# Altium footprint library godnota.PcbLib: 23 footprints (part 1 of 2)
Each footprint in its own frame and in the unit in brackets; x right, y up, seen from the top. Pads: shape width x height; smd on the part's side, far side on the other; paste and mask are expansions set on the pad; w line width, h text height; cw(c..) or ccw(c..) is an arc to the next point about the centre after c.
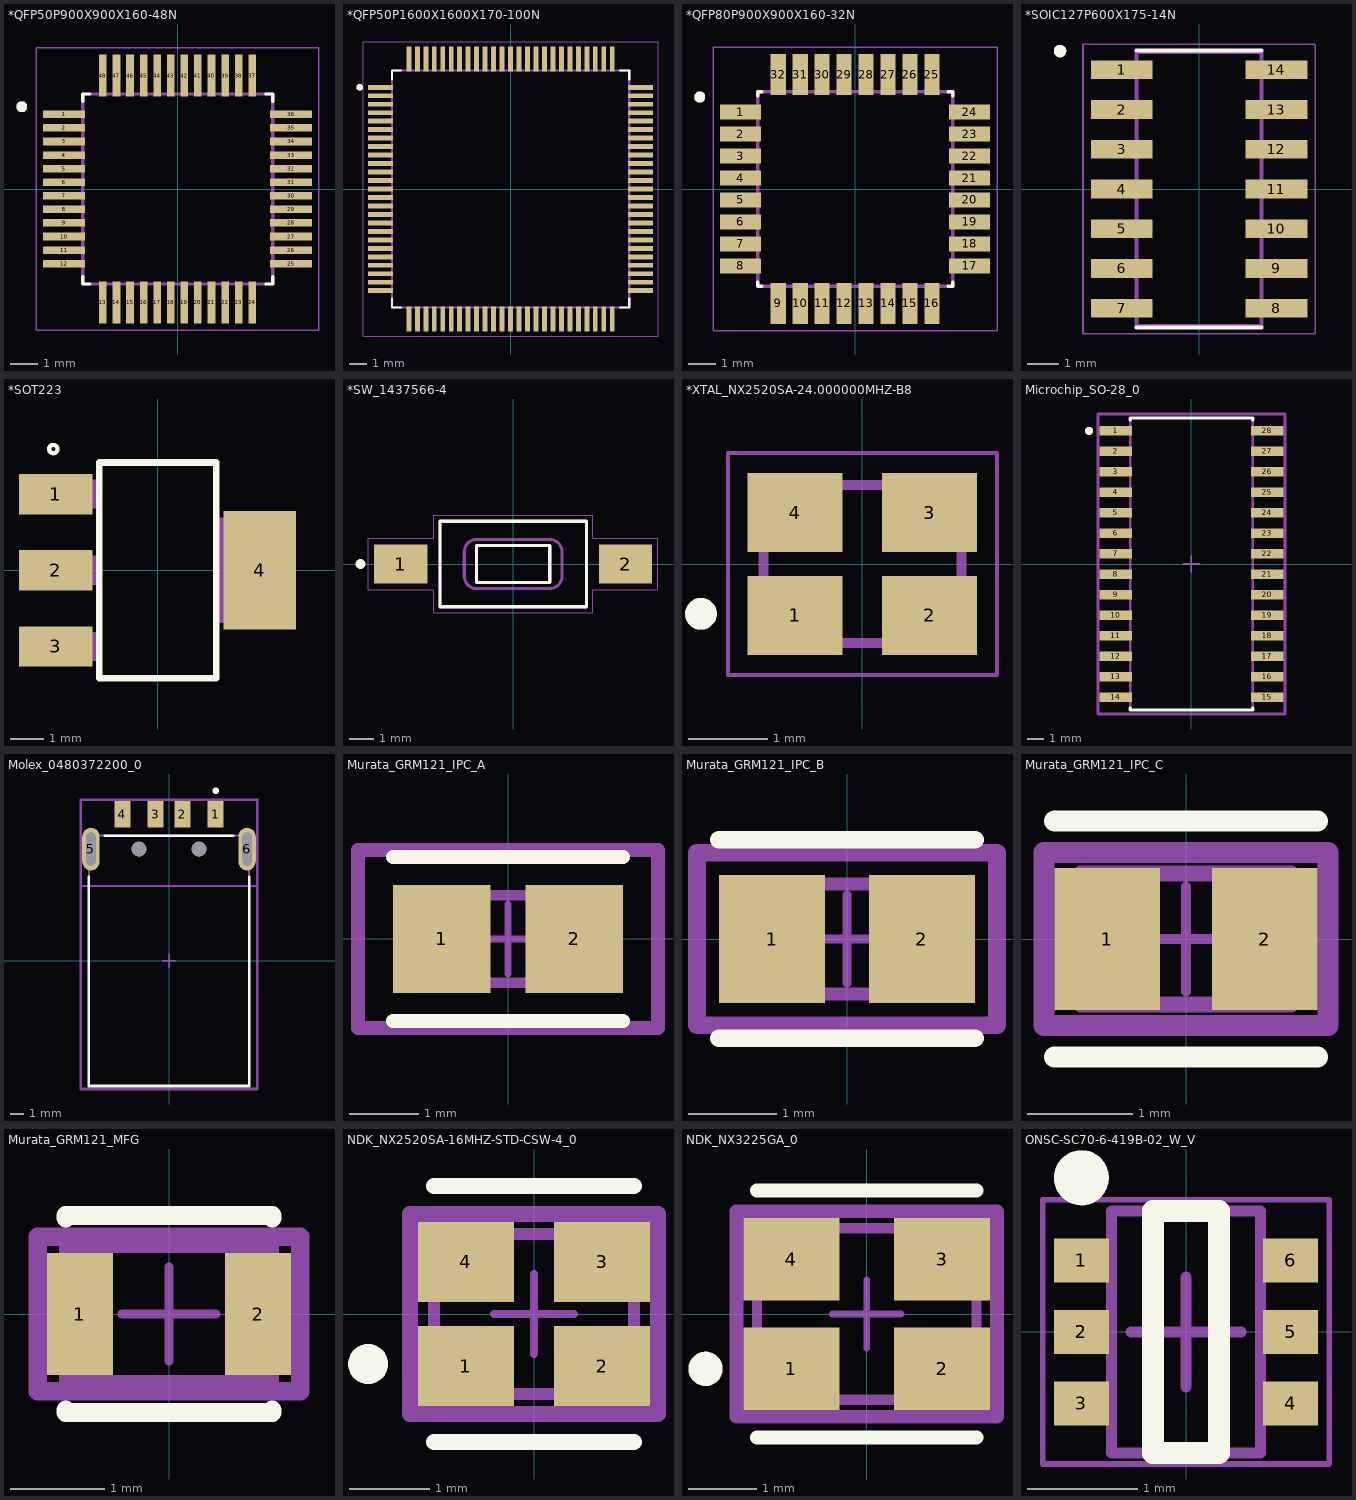
[diagram p0: the footprints below, top view; thin cyan lines are the x and y axes]

## *QFP50P900X900X160-48N [mm]
pads (48):
  rect 1.56x0.28 smd: 1(-4.18,2.75) 2(-4.18,2.25) 3(-4.18,1.75) 4(-4.18,1.25) 5(-4.18,0.75) 6(-4.18,0.25) 7(-4.18,-0.25) 8(-4.18,-0.75) 9(-4.18,-1.25) 10(-4.18,-1.75) 11(-4.18,-2.25) 12(-4.18,-2.75) 25(4.18,-2.75) 26(4.18,-2.25) 27(4.18,-1.75) 28(4.18,-1.25) 29(4.18,-0.75) 30(4.18,-0.25) 31(4.18,0.25) 32(4.18,0.75) 33(4.18,1.25) 34(4.18,1.75) 35(4.18,2.25) 36(4.18,2.75)
  rect 0.28x1.56 smd: 13(-2.75,-4.18) 14(-2.25,-4.18) 15(-1.75,-4.18) 16(-1.25,-4.18) 17(-0.75,-4.18) 18(-0.25,-4.18) 19(0.25,-4.18) 20(0.75,-4.18) 21(1.25,-4.18) 22(1.75,-4.18) 23(2.25,-4.18) 24(2.75,-4.18) 37(2.75,4.18) 38(2.25,4.18) 39(1.75,4.18) 40(1.25,4.18) 41(0.75,4.18) 42(0.25,4.18) 43(-0.25,4.18) 44(-0.75,4.18) 45(-1.25,4.18) 46(-1.75,4.18) 47(-2.25,4.18) 48(-2.75,4.18)
Top Overlay:
  circle w0.2: c-5.74,3.03 r0.1
  lines w0.127: -3.5,-3.24 -3.5,-3.5 -3.24,-3.5 ; -3.5,3.24 -3.5,3.5 -3.24,3.5 ; 3.24,-3.5 3.5,-3.5 3.5,-3.24 ; 3.24,3.5 3.5,3.5 3.5,3.24
Mechanical 4:
  circle w0.2: c-5.74,3.03 r0.1
  circle w0.2: c-5.74,3.03 r0.1
  lines w0.127: -3.5,-3.5 -3.5,3.5 ; -3.5,-3.5 3.5,-3.5 ; -3.5,-3.5 -3.5,3.5 ; -3.5,-3.5 3.5,-3.5 ; -3.5,3.5 3.5,3.5 ; -3.5,3.5 3.5,3.5 ; 3.5,-3.5 3.5,3.5 ; 3.5,-3.5 3.5,3.5
Mechanical 16:
  lines w0.05: -5.21,-5.21 -5.21,5.21 5.21,5.21 5.21,-5.21 -5.21,-5.21
3D body "User Library-LQFP48_Grid_0_5.STEP": height 1.6, standoff 0, extent -4.5,-4.5 4.5,4.5

## *QFP50P1600X1600X170-100N [mm]
pads (100):
  rect 1.49x0.29 smd: 1(-7.67,6) 2(-7.67,5.5) 3(-7.67,5) 4(-7.67,4.5) 5(-7.67,4) 6(-7.67,3.5) 7(-7.67,3) 8(-7.67,2.5) 9(-7.67,2) 10(-7.67,1.5) 11(-7.67,1) 12(-7.67,0.5) 13(-7.67,0) 14(-7.67,-0.5) 15(-7.67,-1) 16(-7.67,-1.5) 17(-7.67,-2) 18(-7.67,-2.5) 19(-7.67,-3) 20(-7.67,-3.5) 21(-7.67,-4) 22(-7.67,-4.5) 23(-7.67,-5) 24(-7.67,-5.5) 25(-7.67,-6) 51(7.67,-6) 52(7.67,-5.5) 53(7.67,-5) 54(7.67,-4.5) 55(7.67,-4) 56(7.67,-3.5) 57(7.67,-3) 58(7.67,-2.5) 59(7.67,-2) 60(7.67,-1.5) 61(7.67,-1) 62(7.67,-0.5) 63(7.67,0) 64(7.67,0.5) 65(7.67,1) 66(7.67,1.5) 67(7.67,2) 68(7.67,2.5) 69(7.67,3) 70(7.67,3.5) 71(7.67,4) 72(7.67,4.5) 73(7.67,5) 74(7.67,5.5) 75(7.67,6)
  rect 0.29x1.49 smd: 26(-6,-7.67) 27(-5.5,-7.67) 28(-5,-7.67) 29(-4.5,-7.67) 30(-4,-7.67) 31(-3.5,-7.67) 32(-3,-7.67) 33(-2.5,-7.67) 34(-2,-7.67) 35(-1.5,-7.67) 36(-1,-7.67) 37(-0.5,-7.67) 38(0,-7.67) 39(0.5,-7.67) 40(1,-7.67) 41(1.5,-7.67) 42(2,-7.67) 43(2.5,-7.67) 44(3,-7.67) 45(3.5,-7.67) 46(4,-7.67) 47(4.5,-7.67) 48(5,-7.67) 49(5.5,-7.67) 50(6,-7.67) 76(6,7.67) 77(5.5,7.67) 78(5,7.67) 79(4.5,7.67) 80(4,7.67) 81(3.5,7.67) 82(3,7.67) 83(2.5,7.67) 84(2,7.67) 85(1.5,7.67) 86(1,7.67) 87(0.5,7.67) 88(0,7.67) 89(-0.5,7.67) 90(-1,7.67) 91(-1.5,7.67) 92(-2,7.67) 93(-2.5,7.67) 94(-3,7.67) 95(-3.5,7.67) 96(-4,7.67) 97(-4.5,7.67) 98(-5,7.67) 99(-5.5,7.67) 100(-6,7.67)
Top Overlay:
  circle w0.2: c-8.9,6 r0.1
  lines w0.127: -7,-6.47 -7,-7 -6.47,-7 ; -7,6.47 -7,7 -6.47,7 ; 6.47,-7 7,-7 7,-6.47 ; 6.47,7 7,7 7,6.47
Mechanical 4:
  circle w0.2: c-8.9,6 r0.1
  circle w0.2: c-8.9,6 r0.1
  lines w0.127: -7,-7 7,-7 ; -7,-7 -7,7 ; -7,-7 7,-7 ; -7,-7 -7,7 ; -7,7 7,7 ; -7,7 7,7 ; 7,-7 7,7 ; 7,-7 7,7
Mechanical 16:
  lines w0.05: -8.7,-8.7 8.7,-8.7 8.7,8.7 -8.7,8.7 -8.7,-8.7
3D body "User Library-LQFP100_05.STEP": height 1.6, standoff 0, extent -8,-8 8,8

## *QFP80P900X900X160-32N [mm]
pads (32):
  rect 1.49x0.55 smd: 1(-4.17,2.8) 2(-4.17,2) 3(-4.17,1.2) 4(-4.17,0.4) 5(-4.17,-0.4) 6(-4.17,-1.2) 7(-4.17,-2) 8(-4.17,-2.8) 17(4.17,-2.8) 18(4.17,-2) 19(4.17,-1.2) 20(4.17,-0.4) 21(4.17,0.4) 22(4.17,1.2) 23(4.17,2) 24(4.17,2.8)
  rect 0.55x1.49 smd: 9(-2.8,-4.17) 10(-2,-4.17) 11(-1.2,-4.17) 12(-0.4,-4.17) 13(0.4,-4.17) 14(1.2,-4.17) 15(2,-4.17) 16(2.8,-4.17) 25(2.8,4.17) 26(2,4.17) 27(1.2,4.17) 28(0.4,4.17) 29(-0.4,4.17) 30(-1.2,4.17) 31(-2,4.17) 32(-2.8,4.17)
Top Overlay:
  circle w0.2: c-5.66,3.35 r0.1
  lines w0.127: -3.55,-3.395 -3.55,-3.55 -3.395,-3.55 ; -3.55,3.395 -3.55,3.55 -3.395,3.55 ; 3.395,-3.55 3.55,-3.55 3.55,-3.395 ; 3.395,3.55 3.55,3.55 3.55,3.395
Mechanical 4:
  circle w0.2: c-5.66,3.35 r0.1
  circle w0.2: c-5.66,3.35 r0.1
  lines w0.127: -3.55,-3.55 -3.55,3.55 ; -3.55,-3.55 3.55,-3.55 ; -3.55,-3.55 -3.55,3.55 ; -3.55,-3.55 3.55,-3.55 ; -3.55,3.55 3.55,3.55 ; -3.55,3.55 3.55,3.55 ; 3.55,-3.55 3.55,3.55 ; 3.55,-3.55 3.55,3.55
Mechanical 16:
  lines w0.05: -5.17,-5.17 -5.17,5.17 5.17,5.17 5.17,-5.17 -5.17,-5.17
3D body "User Library-lqfp32-1.STEP": height 1.5, standoff 0.02, extent -4.5,-4.5 4.5,4.5

## *SOIC127P600X175-14N [mm]
pads (14):
  rect 1.97x0.6 smd: 1(-2.475,3.81) 2(-2.475,2.54) 3(-2.475,1.27) 4(-2.475,0) 5(-2.475,-1.27) 6(-2.475,-2.54) 7(-2.475,-3.81) 8(2.475,-3.81) 9(2.475,-2.54) 10(2.475,-1.27) 11(2.475,0) 12(2.475,1.27) 13(2.475,2.54) 14(2.475,3.81)
Top Overlay:
  circle w0.2: c-4.445,4.41 r0.1
  lines w0.127: -2,-4.43 2,-4.43 ; -2,4.43 2,4.43
Mechanical 4:
  circle w0.2: c-4.445,4.41 r0.1
  circle w0.2: c-4.445,4.41 r0.1
  lines w0.127: -2,-4.375 2,-4.375 ; -2,-4.375 -2,4.375 ; -2,-4.375 2,-4.375 ; -2,-4.375 -2,4.375 ; -2,4.375 2,4.375 ; -2,4.375 2,4.375 ; 2,-4.375 2,4.375 ; 2,-4.375 2,4.375
Mechanical 16:
  lines w0.05: -3.71,-4.625 3.71,-4.625 3.71,4.625 -3.71,4.625 -3.71,-4.625
3D body "User Library-so14-1.STEP": height 1.7, standoff 0, extent -3,-4.4 3,4.4

## *SOT223 [mil]
pads (4):
  rect 88x48 smd: 1(-122,91) 2(-122,0) 3(-122,-91)
  rect 86.61x141.73 smd: 4(122.01,0)
Top Overlay:
  circle w5: c-125,145 r5
  lines w8: -70,-129 -70,129 70,129 70,-129 -70,-129
Mechanical 4:
  region: -70.99,-74.01 -70.99,-108.44 -144.44,-108.44 -144.44,-74.01
  region: -71.11,108.11 -71.11,73.96 -144.04,73.96 -144.04,108.11
  region: -71.1,17.1 -71.1,-17.19 -144.19,-17.19 -144.19,17.1
  region: 144.05,62.95 144.05,-62.99 71.01,-62.99 71.01,62.95
  region: -71,-74 -71,-108.11 -144.11,-108.11 -144.11,-74
  region: -71.15,108.15 -71.15,73.94 -144.06,73.94 -144.06,108.15
  region: -71.04,17.04 -71.04,-17.07 -144.07,-17.07 -144.07,17.04
  region: 144.04,62.96 144.04,-63 71,-63 71,62.96
  region: -70.99,-74.01 -70.99,-108.44 -144.44,-108.44 -144.44,-74.01
  region: -71.11,108.11 -71.11,73.96 -144.04,73.96 -144.04,108.11
  region: -71.1,17.1 -71.1,-17.19 -144.19,-17.19 -144.19,17.1
  region: 144.05,62.95 144.05,-62.99 71.01,-62.99 71.01,62.95
  region: -71,-74 -71,-108.11 -144.11,-108.11 -144.11,-74
  region: -71.15,108.15 -71.15,73.94 -144.06,73.94 -144.06,108.15
  region: -71.04,17.04 -71.04,-17.07 -144.07,-17.07 -144.07,17.04
  region: 144.04,62.96 144.04,-63 71,-63 71,62.96
3D body "ALSRobot-SOT-223.step": height 66.54, standoff 1.57, extent -137.8,-127.95 137.8,127.96

## *SW_1437566-4 [mm]
pads (2):
  rect 2.18x1.6 smd: 1(-4.6,0) 2(4.6,0)
Top Overlay:
  circle w0.2: c-6.25,0 r0.1
  lines w0.127: -3,-1.75 3,-1.75 3,1.75 -3,1.75 -3,-1.75 ; -1.5,-0.75 1.5,-0.75 1.5,0.75 -1.5,0.75 -1.5,-0.75
Mechanical 4:
  circle w0.2: c-4.6,0 r0.1
  circle w0.2: c-4.6,0 r0.1
  lines w0.127: -3,-1.75 3,-1.75 ; -3,-1.75 -3,1.75 ; -3,-1.75 3,-1.75 ; -3,-1.75 -3,1.75 ; -3,1.75 3,1.75 ; -3,1.75 3,1.75 ; -2,-0.5 ccw(c-1.5,-0.5) -1.5,-1 ; -2,-0.5 ccw(c-1.5,-0.5) -1.5,-1 ; -2,-0.5 -2,0.5 ; -2,-0.5 -2,0.5 ; -2,0.5 cw(c-1.5,0.5) -1.5,1 ; -2,0.5 cw(c-1.5,0.5) -1.5,1 ; -1.5,-1 1.5,-1 ; -1.5,-1 1.5,-1 ; -1.5,-0.75 1.5,-0.75 ; -1.5,-0.75 -1.5,0.75 ; -1.5,-0.75 1.5,-0.75 ; -1.5,-0.75 -1.5,0.75 ; -1.5,0.75 1.5,0.75 ; -1.5,0.75 1.5,0.75 ; -1.5,1 1.5,1 ; -1.5,1 1.5,1 ; 1.5,-1 ccw(c1.5,-0.5) 2,-0.5 ; 1.5,-1 ccw(c1.5,-0.5) 2,-0.5 ; 1.5,-0.75 1.5,0.75 ; 1.5,-0.75 1.5,0.75 ; 1.5,1 cw(c1.5,0.5) 2,0.5 ; 1.5,1 cw(c1.5,0.5) 2,0.5 ; 2,-0.5 2,0.5 ; 2,-0.5 2,0.5 ; 3,-1.75 3,1.75 ; 3,-1.75 3,1.75
Mechanical 16:
  lines w0.05: -5.93,-1.05 -5.93,1.05 -3.25,1.05 -3.25,2 3.25,2 3.25,1.05 5.93,1.05 5.93,-1.05 3.25,-1.05 3.25,-2 -3.25,-2 -3.25,-1.05 -5.93,-1.05
3D body "92f2863_fsmsm.stp": height 4.4, standoff -0.02, extent -4.985,-1.75 4.984,1.75

## *XTAL_NX2520SA-24.000000MHZ-B8 [mm]
pads (4):
  rect 1.2x1 smd: 1(-0.85,-0.65) 2(0.85,-0.65) 3(0.85,0.65) 4(-0.85,0.65)
Top Overlay:
  circle w0.3: c-2.04,-0.63 r0.05
Mechanical 4:
  circle w0.3: c-2.04,-0.63 r0.05
  circle w0.3: c-2.04,-0.63 r0.05
  lines w0.127: -1.25,-1 1.25,-1 ; -1.25,-1 -1.25,1 ; -1.25,-1 1.25,-1 ; -1.25,-1 -1.25,1 ; -1.25,1 1.25,1 ; -1.25,1 1.25,1 ; 1.25,-1 1.25,1 ; 1.25,-1 1.25,1
Mechanical 16:
  lines w0.05: -1.7,-1.4 1.7,-1.4 1.7,1.4 -1.7,1.4 -1.7,-1.4
3D body "User Library-NX2520SA.STEP": height 0.65, standoff 0, extent -1.251,-1.001 1.251,1.001

## Microchip_SO-28_0 [mm]
pads (28):
  rect 2x0.6 smd paste+0 mask+0: 1(-4.7,8.255) 2(-4.7,6.985) 3(-4.7,5.715) 4(-4.7,4.445) 5(-4.7,3.175) 6(-4.7,1.905) 7(-4.7,0.635) 8(-4.7,-0.635) 9(-4.7,-1.905) 10(-4.7,-3.175) 11(-4.7,-4.445) 12(-4.7,-5.715) 13(-4.7,-6.985) 14(-4.7,-8.255) 15(4.7,-8.255) 16(4.7,-6.985) 17(4.7,-5.715) 18(4.7,-4.445) 19(4.7,-3.175) 20(4.7,-1.905) 21(4.7,-0.635) 22(4.7,0.635) 23(4.7,1.905) 24(4.7,3.175) 25(4.7,4.445) 26(4.7,5.715) 27(4.7,6.985) 28(4.7,8.255)
Top Overlay:
  circle w0.25: c-6.35,8.255 r0.125
  lines w0.2: -3.8,-8.93 -3.8,-9.05 3.8,-9.05 3.8,-8.93 ; -3.8,8.93 -3.8,9.05 3.8,9.05 3.8,8.93
Mechanical 10:
  lines w0.2: -5.8,-9.3 5.8,-9.3 5.8,9.3 -5.8,9.3 -5.8,-9.3
  text ".Designator" at 0,0 h1
Mechanical 12:
  lines w0.15: -3.8,-9.05 3.8,-9.05 3.8,9.05 -3.8,9.05 -3.8,-9.05
Mechanical 15:
  lines w0.1: -0.5,0 0.5,0 ; 0,-0.5 0,0.5
  lines w0.2: -5.8,-9.3 5.8,-9.3 5.8,9.3 -5.8,9.3 -5.8,-9.3
3D body "IC_Microchip_PIC24FJ128GB202-I-SO_eec.STEP": height 0.25, standoff 0, extent -5.8,-9.3 5.8,9.3

## Molex_0480372200_0 [mm]
pads (8):
  rect 1.2x2 smd paste+0 mask+0: 1(3.5,10.975) 2(1,10.975) 3(-1,10.975) 4(-3.5,10.975)
  oval 1.3x3.2 hole 2.5 slot 0.7 at 0 deg paste-1000 mask+0: 5(-5.85,8.375) 6(5.85,8.375)
  round 1.1 hole 1.1 unplated paste-1000 mask+0: ""(-2.25,8.375) ""(2.25,8.375)
Top Overlay:
  circle w0.25: c3.5,12.75 r0.125
  lines w0.2: -6,6.3 -6,-9.375 6,-9.375 6,6.3 ; -4.8,9.375 4.8,9.375
Mechanical 10:
  lines w0.2: -6.6,-9.6 -6.6,12.075 6.6,12.075 6.6,-9.6 -6.6,-9.6
  text ".Designator" at 0,1.238 h1
Mechanical 12:
  lines w0.15: -6.6,5.625 6.6,5.625 ; -6,-9.375 -6,9.375 6,9.375 6,-9.375 -6,-9.375
Mechanical 15:
  lines w0.1: -0.5,0 0.5,0 ; 0,-0.5 0,0.5
  lines w0.2: -6.6,-9.6 -6.6,12.075 6.6,12.075 6.6,-9.6 -6.6,-9.6
3D body "3dmodel.step": height 2.11, standoff -2.39, extent -6.025,-9.322 6.025,11.628

## Murata_GRM121_IPC_A [mm]
pads (2):
  rect 1.405x1.556 smd paste+0 mask+0: 1(-0.951,0) 2(0.951,0)
Top Overlay:
  lines w0.2: -1.653,-1.178 1.653,-1.178 ; -1.653,1.178 1.653,1.178
Mechanical 10:
  lines w0.2: -2.153,-1.278 -2.153,1.278 2.153,1.278 2.153,-1.278 -2.153,-1.278
  text ".Designator" at 0,0 h1
Mechanical 12:
  lines w0.15: -1,-0.625 -1,0.625 1,0.625 1,-0.625 -1,-0.625
Mechanical 15:
  lines w0.1: -0.5,0 0.5,0 ; 0,-0.5 0,0.5
  lines w0.2: -2.153,-1.278 -2.153,1.278 2.153,1.278 2.153,-1.278 -2.153,-1.278

## Murata_GRM121_IPC_B [mm]
pads (2):
  rect 1.205x1.456 smd paste+0 mask+0: 1(-0.851,0) 2(0.851,0)
Top Overlay:
  lines w0.2: -1.453,-1.128 1.453,-1.128 ; -1.453,1.128 1.453,1.128
Mechanical 10:
  lines w0.2: -1.703,-0.978 -1.703,0.978 1.703,0.978 1.703,-0.978 -1.703,-0.978
  text ".Designator" at 0,0 h1
Mechanical 12:
  lines w0.15: -1,-0.625 -1,0.625 1,0.625 1,-0.625 -1,-0.625
Mechanical 15:
  lines w0.1: -0.5,0 0.5,0 ; 0,-0.5 0,0.5
  lines w0.2: -1.703,-0.978 -1.703,0.978 1.703,0.978 1.703,-0.978 -1.703,-0.978

## Murata_GRM121_IPC_C [mm]
pads (2):
  rect 1.005x1.356 smd paste+0 mask+0: 1(-0.751,0) 2(0.751,0)
Top Overlay:
  lines w0.2: -1.253,-1.125 1.253,-1.125 ; -1.253,1.125 1.253,1.125
Mechanical 10:
  lines w0.2: -1.353,-0.825 -1.353,0.825 1.353,0.825 1.353,-0.825 -1.353,-0.825
  text ".Designator" at 0,0 h1
Mechanical 12:
  lines w0.15: -1,-0.625 -1,0.625 1,0.625 1,-0.625 -1,-0.625
Mechanical 15:
  lines w0.1: -0.5,0 0.5,0 ; 0,-0.5 0,0.5
  lines w0.2: -1.353,-0.825 -1.353,0.825 1.353,0.825 1.353,-0.825 -1.353,-0.825

## Murata_GRM121_MFG [mm]
pads (2):
  rect 0.7x1.3 smd paste+0 mask+0: 1(-0.95,0) 2(0.95,0)
Top Overlay:
  lines w0.2: -1.1,-1.025 -1.1,-1.05 1.1,-1.05 1.1,-1.025 ; -1.1,1.025 -1.1,1.05 1.1,1.05 1.1,1.025
Mechanical 10:
  lines w0.2: -1.4,-0.825 -1.4,0.825 1.4,0.825 1.4,-0.825 -1.4,-0.825
  text ".Designator" at 0,0 h1
Mechanical 12:
  lines w0.15: -1.1,-0.725 -1.1,0.725 1.1,0.725 1.1,-0.725 -1.1,-0.725
Mechanical 15:
  lines w0.1: -0.5,0 0.5,0 ; 0,-0.5 0,0.5
  lines w0.2: -1.4,-0.825 -1.4,0.825 1.4,0.825 1.4,-0.825 -1.4,-0.825

## NDK_NX2520SA-16MHZ-STD-CSW-4_0 [mm]
pads (4):
  rect 1.2x1 smd paste+0 mask+0: 1(-0.85,-0.65) 2(0.85,-0.65) 3(0.85,0.65) 4(-0.85,0.65)
Top Overlay:
  circle w0.25: c-2.075,-0.625 r0.125
  lines w0.2: -1.25,-1.6 1.25,-1.6 ; -1.25,1.6 1.25,1.6
Mechanical 10:
  lines w0.2: -1.55,-1.25 1.55,-1.25 1.55,1.25 -1.55,1.25 -1.55,-1.25
  text ".Designator" at 0,0 h1
Mechanical 12:
  lines w0.15: -1.25,-1 1.25,-1 1.25,1 -1.25,1 -1.25,-1
Mechanical 15:
  lines w0.1: -0.5,0 0.5,0 ; 0,-0.5 0,0.5
  lines w0.2: -1.55,-1.25 1.55,-1.25 1.55,1.25 -1.55,1.25 -1.55,-1.25
3D body "User Library-NX2520SA.STEP": height 0.64, standoff -0.01, extent -1.251,-1.001 1.251,1.001

## NDK_NX3225GA_0 [mm]
pads (4):
  rect 1.4x1.2 smd paste+0 mask+0: 1(-1.1,-0.8) 2(1.1,-0.8) 3(1.1,0.8) 4(-1.1,0.8)
Top Overlay:
  circle w0.25: c-2.35,-0.8 r0.125
  lines w0.2: -1.6,-1.8 1.6,-1.8 ; -1.6,1.8 1.6,1.8
Mechanical 10:
  lines w0.2: -1.9,-1.5 -1.9,1.5 1.9,1.5 1.9,-1.5 -1.9,-1.5
  text ".Designator" at 0,0 h1
Mechanical 12:
  lines w0.15: -1.6,-1.25 -1.6,1.25 1.6,1.25 1.6,-1.25 -1.6,-1.25
Mechanical 15:
  lines w0.1: -0.5,0 0.5,0 ; 0,-0.5 0,0.5
  lines w0.2: -1.9,-1.5 -1.9,1.5 1.9,1.5 1.9,-1.5 -1.9,-1.5
3D body "NX3225SA-26.000M-STD-CSR-3--3DModel-STEP-56544.STEP": height 0.6, standoff 0, extent -1.6,-1.25 1.6,1.25

## ONSC-SC70-6-419B-02_W_V [mm] "SOT23, 6-Leads, Body 2.2x1.35mm, Pitch 0.65mm"
height 1.1
pads (6):
  rect 0.5x0.4 smd: 1(-0.95,0.65) 2(-0.95,0) 3(-0.95,-0.65) 4(0.95,-0.65) 5(0.95,0) 6(0.95,0.65)
Top Overlay:
  circle w0.25: c-0.95,1.4 r0.125
  lines w0.2: -0.3,-1.1 -0.3,1.1 0.3,1.1 0.3,-1.1 -0.3,-1.1
Mechanical 13:
  lines w0.1: -0.675,-1.1 -0.675,1.1 0.675,1.1 0.675,-1.1 -0.675,-1.1
Mechanical 15:
  lines w0.05: -1.3,-1.2 -1.3,1.2 1.3,1.2 1.3,-1.2 -1.3,-1.2
  lines w0.1: -0.5,0 0.5,0 ; 0,-0.5 0,0.5
3D body: height 1.1, standoff 0, extent -0.675,-1.1 0.675,1.1